# Altium footprint library IC_SMD_BGA.PCBLIB: 109 footprints (part 6 of 14)
Each footprint in its own frame and in the unit in brackets; x right, y up, seen from the top. Pads: shape width x height; smd on the part's side, far side on the other; paste and mask are expansions set on the pad; w line width, h text height; cw(c..) or ccw(c..) is an arc to the next point about the centre after c.
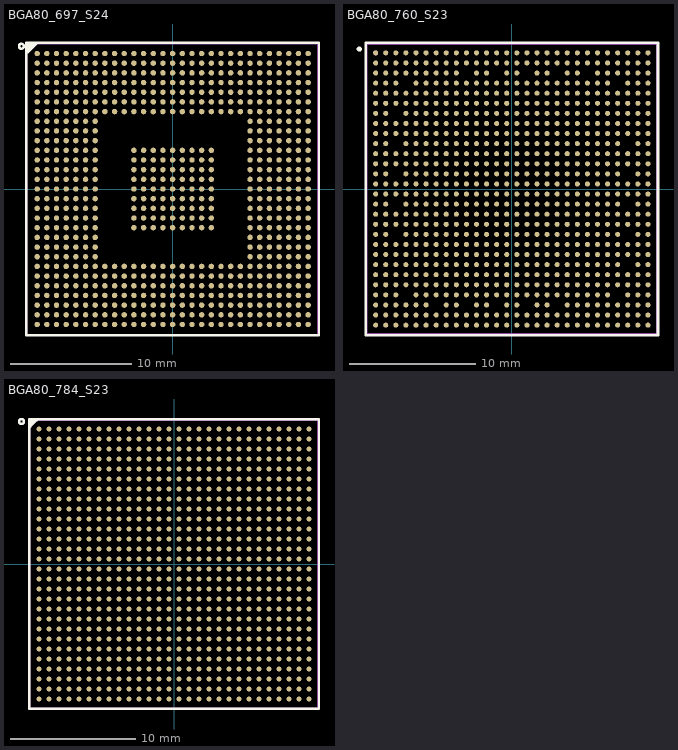
[diagram p5: the footprints below, top view; thin cyan lines are the x and y axes]

## BGA80_697_S24 [mm] "ZTZ GTZ PBGA N697"
height 3.2
pads (697):
  round 0.45 smd: A1(-11.2,11.2) A2(-10.4,11.2) A3(-9.6,11.2) A4(-8.8,11.2) A5(-8,11.2) A6(-7.2,11.2) A7(-6.4,11.2) A8(-5.6,11.2) A9(-4.8,11.2) A10(-4,11.2) A11(-3.2,11.2) A12(-2.4,11.2) A13(-1.6,11.2) A14(-0.8,11.2) A15(0,11.2) A16(0.8,11.2) A17(1.6,11.2) A18(2.4,11.2) A19(3.2,11.2) A20(4,11.2) A21(4.8,11.2) A22(5.6,11.2) A23(6.4,11.2) A24(7.2,11.2) A25(8,11.2) A26(8.8,11.2) A27(9.6,11.2) A28(10.4,11.2) A29(11.2,11.2) AA1(-11.2,-4.8) AA2(-10.4,-4.8) AA3(-9.6,-4.8) AA4(-8.8,-4.8) AA5(-8,-4.8) AA6(-7.2,-4.8) AA7(-6.4,-4.8) AA23(6.4,-4.8) AA24(7.2,-4.8) AA25(8,-4.8) AA26(8.8,-4.8) AA27(9.6,-4.8) AA28(10.4,-4.8) AA29(11.2,-4.8) AB1(-11.2,-5.6) AB2(-10.4,-5.6) AB3(-9.6,-5.6) AB4(-8.8,-5.6) AB5(-8,-5.6) AB6(-7.2,-5.6) AB7(-6.4,-5.6) AB23(6.4,-5.6) AB24(7.2,-5.6) AB25(8,-5.6) AB26(8.8,-5.6) AB27(9.6,-5.6) AB28(10.4,-5.6) AB29(11.2,-5.6) AC1(-11.2,-6.4) AC2(-10.4,-6.4) AC3(-9.6,-6.4) AC4(-8.8,-6.4) AC5(-8,-6.4) AC6(-7.2,-6.4) AC7(-6.4,-6.4) AC8(-5.6,-6.4) AC9(-4.8,-6.4) AC10(-4,-6.4) AC11(-3.2,-6.4) AC12(-2.4,-6.4) AC13(-1.6,-6.4) AC14(-0.8,-6.4) AC15(0,-6.4) AC16(0.8,-6.4) AC17(1.6,-6.4) AC18(2.4,-6.4) AC19(3.2,-6.4) AC20(4,-6.4) AC21(4.8,-6.4) AC22(5.6,-6.4) AC23(6.4,-6.4) AC24(7.2,-6.4) AC25(8,-6.4) AC26(8.8,-6.4) AC27(9.6,-6.4) AC28(10.4,-6.4) AC29(11.2,-6.4) AD1(-11.2,-7.2) AD2(-10.4,-7.2) AD3(-9.6,-7.2) AD4(-8.8,-7.2) AD5(-8,-7.2) AD6(-7.2,-7.2) AD7(-6.4,-7.2) AD8(-5.6,-7.2) AD9(-4.8,-7.2) AD10(-4,-7.2) AD11(-3.2,-7.2) AD12(-2.4,-7.2) AD13(-1.6,-7.2) AD14(-0.8,-7.2) AD15(0,-7.2) AD16(0.8,-7.2) AD17(1.6,-7.2) AD18(2.4,-7.2) AD19(3.2,-7.2) AD20(4,-7.2) AD21(4.8,-7.2) AD22(5.6,-7.2) AD23(6.4,-7.2) AD24(7.2,-7.2) AD25(8,-7.2) AD26(8.8,-7.2) AD27(9.6,-7.2) AD28(10.4,-7.2) AD29(11.2,-7.2) AE1(-11.2,-8) AE2(-10.4,-8) AE3(-9.6,-8) AE4(-8.8,-8) AE5(-8,-8) AE6(-7.2,-8) AE7(-6.4,-8) AE8(-5.6,-8) AE9(-4.8,-8) AE10(-4,-8) AE11(-3.2,-8) AE12(-2.4,-8) AE13(-1.6,-8) AE14(-0.8,-8) AE15(0,-8) AE16(0.8,-8) AE17(1.6,-8) AE18(2.4,-8) AE19(3.2,-8) AE20(4,-8) AE21(4.8,-8) AE22(5.6,-8) AE23(6.4,-8) AE24(7.2,-8) AE25(8,-8) AE26(8.8,-8) AE27(9.6,-8) AE28(10.4,-8) AE29(11.2,-8) AF1(-11.2,-8.8) AF2(-10.4,-8.8) AF3(-9.6,-8.8) AF4(-8.8,-8.8) AF5(-8,-8.8) AF6(-7.2,-8.8) AF7(-6.4,-8.8) AF8(-5.6,-8.8) AF9(-4.8,-8.8) AF10(-4,-8.8) AF11(-3.2,-8.8) AF12(-2.4,-8.8) AF13(-1.6,-8.8) AF14(-0.8,-8.8) AF15(0,-8.8) AF16(0.8,-8.8) AF17(1.6,-8.8) AF18(2.4,-8.8) AF19(3.2,-8.8) AF20(4,-8.8) AF21(4.8,-8.8) AF22(5.6,-8.8) AF23(6.4,-8.8) AF24(7.2,-8.8) AF25(8,-8.8) AF26(8.8,-8.8) AF27(9.6,-8.8) AF28(10.4,-8.8) AF29(11.2,-8.8) AG1(-11.2,-9.6) AG2(-10.4,-9.6) AG3(-9.6,-9.6) AG4(-8.8,-9.6) AG5(-8,-9.6) AG6(-7.2,-9.6) AG7(-6.4,-9.6) AG8(-5.6,-9.6) AG9(-4.8,-9.6) AG10(-4,-9.6) AG11(-3.2,-9.6) AG12(-2.4,-9.6) AG13(-1.6,-9.6) AG14(-0.8,-9.6) AG15(0,-9.6) AG16(0.8,-9.6) AG17(1.6,-9.6) AG18(2.4,-9.6) AG19(3.2,-9.6) AG20(4,-9.6) AG21(4.8,-9.6) AG22(5.6,-9.6) AG23(6.4,-9.6) AG24(7.2,-9.6) AG25(8,-9.6) AG26(8.8,-9.6) AG27(9.6,-9.6) AG28(10.4,-9.6) AG29(11.2,-9.6) AH1(-11.2,-10.4) AH2(-10.4,-10.4) AH3(-9.6,-10.4) AH4(-8.8,-10.4) AH5(-8,-10.4) AH6(-7.2,-10.4) AH7(-6.4,-10.4) AH8(-5.6,-10.4) AH9(-4.8,-10.4) AH10(-4,-10.4) AH11(-3.2,-10.4) AH12(-2.4,-10.4) AH13(-1.6,-10.4) AH14(-0.8,-10.4) AH15(0,-10.4) AH16(0.8,-10.4) AH17(1.6,-10.4) AH18(2.4,-10.4) AH19(3.2,-10.4) AH20(4,-10.4) AH21(4.8,-10.4) AH22(5.6,-10.4) AH23(6.4,-10.4) AH24(7.2,-10.4) AH25(8,-10.4) AH26(8.8,-10.4) AH27(9.6,-10.4) AH28(10.4,-10.4) AH29(11.2,-10.4) AJ1(-11.2,-11.2) AJ2(-10.4,-11.2) AJ3(-9.6,-11.2) AJ4(-8.8,-11.2) AJ5(-8,-11.2) AJ6(-7.2,-11.2) AJ7(-6.4,-11.2) AJ8(-5.6,-11.2) AJ9(-4.8,-11.2) AJ10(-4,-11.2) AJ11(-3.2,-11.2) AJ12(-2.4,-11.2) AJ13(-1.6,-11.2) AJ14(-0.8,-11.2) AJ15(0,-11.2) AJ16(0.8,-11.2) AJ17(1.6,-11.2) AJ18(2.4,-11.2) AJ19(3.2,-11.2) AJ20(4,-11.2) AJ21(4.8,-11.2) AJ22(5.6,-11.2) AJ23(6.4,-11.2) AJ24(7.2,-11.2) AJ25(8,-11.2) AJ26(8.8,-11.2) AJ27(9.6,-11.2) AJ28(10.4,-11.2) AJ29(11.2,-11.2) B1(-11.2,10.4) B2(-10.4,10.4) B3(-9.6,10.4) B4(-8.8,10.4) B5(-8,10.4) B6(-7.2,10.4) B7(-6.4,10.4) B8(-5.6,10.4) B9(-4.8,10.4) B10(-4,10.4) B11(-3.2,10.4) B12(-2.4,10.4) B13(-1.6,10.4) B14(-0.8,10.4) B15(0,10.4) B16(0.8,10.4) B17(1.6,10.4) B18(2.4,10.4) B19(3.2,10.4) B20(4,10.4) B21(4.8,10.4) B22(5.6,10.4) B23(6.4,10.4) B24(7.2,10.4) B25(8,10.4) B26(8.8,10.4) B27(9.6,10.4) B28(10.4,10.4) B29(11.2,10.4) C1(-11.2,9.6) C2(-10.4,9.6) C3(-9.6,9.6) C4(-8.8,9.6) C5(-8,9.6) C6(-7.2,9.6) C7(-6.4,9.6) C8(-5.6,9.6) C9(-4.8,9.6) C10(-4,9.6) C11(-3.2,9.6) C12(-2.4,9.6) C13(-1.6,9.6) C14(-0.8,9.6) C15(0,9.6) C16(0.8,9.6) C17(1.6,9.6) C18(2.4,9.6) C19(3.2,9.6) C20(4,9.6) C21(4.8,9.6) C22(5.6,9.6) C23(6.4,9.6) C24(7.2,9.6) C25(8,9.6) C26(8.8,9.6) C27(9.6,9.6) C28(10.4,9.6) C29(11.2,9.6) D1(-11.2,8.8) D2(-10.4,8.8) D3(-9.6,8.8) D4(-8.8,8.8) D5(-8,8.8) D6(-7.2,8.8) D7(-6.4,8.8) D8(-5.6,8.8) D9(-4.8,8.8) D10(-4,8.8) D11(-3.2,8.8) D12(-2.4,8.8) D13(-1.6,8.8) D14(-0.8,8.8) D15(0,8.8) D16(0.8,8.8) D17(1.6,8.8) D18(2.4,8.8) D19(3.2,8.8) D20(4,8.8) D21(4.8,8.8) D22(5.6,8.8) D23(6.4,8.8) D24(7.2,8.8) D25(8,8.8) D26(8.8,8.8) D27(9.6,8.8) D28(10.4,8.8) D29(11.2,8.8) E1(-11.2,8) E2(-10.4,8) E3(-9.6,8) E4(-8.8,8) E5(-8,8) E6(-7.2,8) E7(-6.4,8) E8(-5.6,8) E9(-4.8,8) E10(-4,8) E11(-3.2,8) E12(-2.4,8) E13(-1.6,8) E14(-0.8,8) E15(0,8) E16(0.8,8) E17(1.6,8) E18(2.4,8) E19(3.2,8) E20(4,8) E21(4.8,8) E22(5.6,8) E23(6.4,8) E24(7.2,8) E25(8,8) E26(8.8,8) E27(9.6,8) E28(10.4,8) E29(11.2,8) F1(-11.2,7.2) F2(-10.4,7.2) F3(-9.6,7.2) F4(-8.8,7.2) F5(-8,7.2) F6(-7.2,7.2) F7(-6.4,7.2) F8(-5.6,7.2) F9(-4.8,7.2) F10(-4,7.2) F11(-3.2,7.2) F12(-2.4,7.2) F13(-1.6,7.2) F14(-0.8,7.2) F15(0,7.2) F16(0.8,7.2) F17(1.6,7.2) F18(2.4,7.2) F19(3.2,7.2) F20(4,7.2) F21(4.8,7.2) F22(5.6,7.2) F23(6.4,7.2) F24(7.2,7.2) F25(8,7.2) F26(8.8,7.2) F27(9.6,7.2) F28(10.4,7.2) F29(11.2,7.2) G1(-11.2,6.4) G2(-10.4,6.4) G3(-9.6,6.4) G4(-8.8,6.4) G5(-8,6.4) G6(-7.2,6.4) G7(-6.4,6.4) G8(-5.6,6.4) G9(-4.8,6.4) G10(-4,6.4) G11(-3.2,6.4) G12(-2.4,6.4) G13(-1.6,6.4) G14(-0.8,6.4) G15(0,6.4) G16(0.8,6.4) G17(1.6,6.4) G18(2.4,6.4) G19(3.2,6.4) G20(4,6.4) G21(4.8,6.4) G22(5.6,6.4) G23(6.4,6.4) G24(7.2,6.4) G25(8,6.4) G26(8.8,6.4) G27(9.6,6.4) G28(10.4,6.4) G29(11.2,6.4) H1(-11.2,5.6) H2(-10.4,5.6) H3(-9.6,5.6) H4(-8.8,5.6) H5(-8,5.6) H6(-7.2,5.6) H7(-6.4,5.6) H23(6.4,5.6) H24(7.2,5.6) H25(8,5.6) H26(8.8,5.6) H27(9.6,5.6) H28(10.4,5.6) H29(11.2,5.6) J1(-11.2,4.8) J2(-10.4,4.8) J3(-9.6,4.8) J4(-8.8,4.8) J5(-8,4.8) J6(-7.2,4.8) J7(-6.4,4.8) J23(6.4,4.8) J24(7.2,4.8) J25(8,4.8) J26(8.8,4.8) J27(9.6,4.8) J28(10.4,4.8) J29(11.2,4.8) K1(-11.2,4) K2(-10.4,4) K3(-9.6,4) K4(-8.8,4) K5(-8,4) K6(-7.2,4) K7(-6.4,4) K23(6.4,4) K24(7.2,4) K25(8,4) K26(8.8,4) K27(9.6,4) K28(10.4,4) K29(11.2,4) L1(-11.2,3.2) L2(-10.4,3.2) L3(-9.6,3.2) L4(-8.8,3.2) L5(-8,3.2) L6(-7.2,3.2) L7(-6.4,3.2) L11(-3.2,3.2) L12(-2.4,3.2) L13(-1.6,3.2) L14(-0.8,3.2) L15(0,3.2) L16(0.8,3.2) L17(1.6,3.2) L18(2.4,3.2) L19(3.2,3.2) L23(6.4,3.2) L24(7.2,3.2) L25(8,3.2) L26(8.8,3.2) L27(9.6,3.2) L28(10.4,3.2) L29(11.2,3.2) M1(-11.2,2.4) M2(-10.4,2.4) M3(-9.6,2.4) M4(-8.8,2.4) M5(-8,2.4) M6(-7.2,2.4) M7(-6.4,2.4) M11(-3.2,2.4) M12(-2.4,2.4) M13(-1.6,2.4) M14(-0.8,2.4) M15(0,2.4) M16(0.8,2.4) M17(1.6,2.4) M18(2.4,2.4) M19(3.2,2.4) M23(6.4,2.4) M24(7.2,2.4) M25(8,2.4) M26(8.8,2.4) M27(9.6,2.4) M28(10.4,2.4) M29(11.2,2.4) N1(-11.2,1.6) N2(-10.4,1.6) N3(-9.6,1.6) N4(-8.8,1.6) N5(-8,1.6) N6(-7.2,1.6) N7(-6.4,1.6) N11(-3.2,1.6) N12(-2.4,1.6) N13(-1.6,1.6) N14(-0.8,1.6) N15(0,1.6) N16(0.8,1.6) N17(1.6,1.6) N18(2.4,1.6) N19(3.2,1.6) N23(6.4,1.6) N24(7.2,1.6) N25(8,1.6) N26(8.8,1.6) N27(9.6,1.6) N28(10.4,1.6) N29(11.2,1.6) P1(-11.2,0.8) P2(-10.4,0.8) P3(-9.6,0.8) P4(-8.8,0.8) P5(-8,0.8) P6(-7.2,0.8) P7(-6.4,0.8) P11(-3.2,0.8) P12(-2.4,0.8) P13(-1.6,0.8) P14(-0.8,0.8) P15(0,0.8) P16(0.8,0.8) P17(1.6,0.8) P18(2.4,0.8) P19(3.2,0.8) P23(6.4,0.8) P24(7.2,0.8) P25(8,0.8) P26(8.8,0.8) P27(9.6,0.8) P28(10.4,0.8) P29(11.2,0.8) R1(-11.2,0) R2(-10.4,0) R3(-9.6,0) R4(-8.8,0) R5(-8,0) R6(-7.2,0) R7(-6.4,0) R11(-3.2,0) R12(-2.4,0) R13(-1.6,0) R14(-0.8,0) R15(0,0) R16(0.8,0) R17(1.6,0) R18(2.4,0) R19(3.2,0) R23(6.4,0) R24(7.2,0) R25(8,0) R26(8.8,0) R27(9.6,0) R28(10.4,0) R29(11.2,0) T1(-11.2,-0.8) T2(-10.4,-0.8) T3(-9.6,-0.8) T4(-8.8,-0.8) T5(-8,-0.8) T6(-7.2,-0.8) T7(-6.4,-0.8) T11(-3.2,-0.8) T12(-2.4,-0.8) T13(-1.6,-0.8) T14(-0.8,-0.8) T15(0,-0.8) T16(0.8,-0.8) T17(1.6,-0.8) T18(2.4,-0.8) T19(3.2,-0.8) T23(6.4,-0.8) T24(7.2,-0.8) T25(8,-0.8) T26(8.8,-0.8) T27(9.6,-0.8) T28(10.4,-0.8) T29(11.2,-0.8) U1(-11.2,-1.6) U2(-10.4,-1.6) U3(-9.6,-1.6) U4(-8.8,-1.6) U5(-8,-1.6) U6(-7.2,-1.6) U7(-6.4,-1.6) U11(-3.2,-1.6) U12(-2.4,-1.6) U13(-1.6,-1.6) U14(-0.8,-1.6) U15(0,-1.6) U16(0.8,-1.6) U17(1.6,-1.6) U18(2.4,-1.6) U19(3.2,-1.6) U23(6.4,-1.6) U24(7.2,-1.6) U25(8,-1.6) U26(8.8,-1.6) U27(9.6,-1.6) U28(10.4,-1.6) U29(11.2,-1.6) V1(-11.2,-2.4) V2(-10.4,-2.4) V3(-9.6,-2.4) V4(-8.8,-2.4) V5(-8,-2.4) V6(-7.2,-2.4) V7(-6.4,-2.4) V11(-3.2,-2.4) V12(-2.4,-2.4) V13(-1.6,-2.4) V14(-0.8,-2.4) V15(0,-2.4) V16(0.8,-2.4) V17(1.6,-2.4) V18(2.4,-2.4) V19(3.2,-2.4) V23(6.4,-2.4) V24(7.2,-2.4) V25(8,-2.4) V26(8.8,-2.4) V27(9.6,-2.4) V28(10.4,-2.4) V29(11.2,-2.4) W1(-11.2,-3.2) W2(-10.4,-3.2) W3(-9.6,-3.2) W4(-8.8,-3.2) W5(-8,-3.2) W6(-7.2,-3.2) W7(-6.4,-3.2) W11(-3.2,-3.2) W12(-2.4,-3.2) W13(-1.6,-3.2) W14(-0.8,-3.2) W15(0,-3.2) W16(0.8,-3.2) W17(1.6,-3.2) W18(2.4,-3.2) W19(3.2,-3.2) W23(6.4,-3.2) W24(7.2,-3.2) W25(8,-3.2) W26(8.8,-3.2) W27(9.6,-3.2) W28(10.4,-3.2) W29(11.2,-3.2) Y1(-11.2,-4) Y2(-10.4,-4) Y3(-9.6,-4) Y4(-8.8,-4) Y5(-8,-4) Y6(-7.2,-4) Y7(-6.4,-4) Y23(6.4,-4) Y24(7.2,-4) Y25(8,-4) Y26(8.8,-4) Y27(9.6,-4) Y28(10.4,-4) Y29(11.2,-4)
TopOverlay:
  circle w0.2: c-12.5,11.8 r0.2
  region: -11.284,12 -12,11.284 -12,12
  lines w0.2: -12,11.284 -11.284,12 ; -12.1,-12.1 -12.1,12.1 12.1,12.1 12.1,-12.1 -12.1,-12.1
Mechanical13:
  lines w0.1: -12,-12 -12,12 12,12 12,-12 -12,-12
3D body: height 3.2, standoff 0.35, extent -12,-12 12,12

## BGA80_760_S23 [mm] "BGA, ABC, 760-ball, 0.8mm pitch 23x23x3mm"
height 3
pads (760):
  round 0.4 smd mask+0.05: A1(-10.8,10.8) A2(-10,10.8) A3(-9.2,10.8) A4(-8.4,10.8) A5(-7.6,10.8) A6(-6.8,10.8) A7(-6,10.8) A8(-5.2,10.8) A9(-4.4,10.8) A10(-3.6,10.8) A11(-2.8,10.8) A12(-2,10.8) A13(-1.2,10.8) A14(-0.4,10.8) A15(0.4,10.8) A16(1.2,10.8) A17(2,10.8) A18(2.8,10.8) A19(3.6,10.8) A20(4.4,10.8) A21(5.2,10.8) A22(6,10.8) A23(6.8,10.8) A24(7.6,10.8) A25(8.4,10.8) A26(9.2,10.8) A27(10,10.8) A28(10.8,10.8) AA1(-10.8,-5.2) AA2(-10,-5.2) AA3(-9.2,-5.2) AA4(-8.4,-5.2) AA5(-7.6,-5.2) AA6(-6.8,-5.2) AA7(-6,-5.2) AA8(-5.2,-5.2) AA9(-4.4,-5.2) AA10(-3.6,-5.2) AA11(-2.8,-5.2) AA12(-2,-5.2) AA13(-1.2,-5.2) AA14(-0.4,-5.2) AA15(0.4,-5.2) AA16(1.2,-5.2) AA17(2,-5.2) AA18(2.8,-5.2) AA19(3.6,-5.2) AA20(4.4,-5.2) AA21(5.2,-5.2) AA22(6,-5.2) AA23(6.8,-5.2) AA24(7.6,-5.2) AA25(8.4,-5.2) AA26(9.2,-5.2) AA27(10,-5.2) AA28(10.8,-5.2) AB1(-10.8,-6) AB2(-10,-6) AB3(-9.2,-6) AB4(-8.4,-6) AB5(-7.6,-6) AB6(-6.8,-6) AB7(-6,-6) AB8(-5.2,-6) AB9(-4.4,-6) AB10(-3.6,-6) AB11(-2.8,-6) AB12(-2,-6) AB13(-1.2,-6) AB14(-0.4,-6) AB15(0.4,-6) AB16(1.2,-6) AB17(2,-6) AB18(2.8,-6) AB19(3.6,-6) AB20(4.4,-6) AB21(5.2,-6) AB22(6,-6) AB23(6.8,-6) AB24(7.6,-6) AB25(8.4,-6) AB27(10,-6) AB28(10.8,-6) AC1(-10.8,-6.8) AC2(-10,-6.8) AC3(-9.2,-6.8) AC4(-8.4,-6.8) AC5(-7.6,-6.8) AC6(-6.8,-6.8) AC7(-6,-6.8) AC8(-5.2,-6.8) AC9(-4.4,-6.8) AC10(-3.6,-6.8) AC11(-2.8,-6.8) AC12(-2,-6.8) AC13(-1.2,-6.8) AC14(-0.4,-6.8) AC15(0.4,-6.8) AC16(1.2,-6.8) AC17(2,-6.8) AC18(2.8,-6.8) AC19(3.6,-6.8) AC20(4.4,-6.8) AC21(5.2,-6.8) AC22(6,-6.8) AC23(6.8,-6.8) AC24(7.6,-6.8) AC25(8.4,-6.8) AC26(9.2,-6.8) AC27(10,-6.8) AC28(10.8,-6.8) AD1(-10.8,-7.6) AD2(-10,-7.6) AD3(-9.2,-7.6) AD4(-8.4,-7.6) AD5(-7.6,-7.6) AD6(-6.8,-7.6) AD7(-6,-7.6) AD8(-5.2,-7.6) AD9(-4.4,-7.6) AD10(-3.6,-7.6) AD11(-2.8,-7.6) AD12(-2,-7.6) AD13(-1.2,-7.6) AD14(-0.4,-7.6) AD15(0.4,-7.6) AD16(1.2,-7.6) AD17(2,-7.6) AD18(2.8,-7.6) AD19(3.6,-7.6) AD20(4.4,-7.6) AD21(5.2,-7.6) AD22(6,-7.6) AD23(6.8,-7.6) AD24(7.6,-7.6) AD25(8.4,-7.6) AD26(9.2,-7.6) AD27(10,-7.6) AD28(10.8,-7.6) AE1(-10.8,-8.4) AE2(-10,-8.4) AE3(-9.2,-8.4) AE5(-7.6,-8.4) AE6(-6.8,-8.4) AE7(-6,-8.4) AE8(-5.2,-8.4) AE9(-4.4,-8.4) AE10(-3.6,-8.4) AE11(-2.8,-8.4) AE12(-2,-8.4) AE13(-1.2,-8.4) AE14(-0.4,-8.4) AE15(0.4,-8.4) AE16(1.2,-8.4) AE17(2,-8.4) AE18(2.8,-8.4) AE19(3.6,-8.4) AE20(4.4,-8.4) AE21(5.2,-8.4) AE22(6,-8.4) AE23(6.8,-8.4) AE24(7.6,-8.4) AE26(9.2,-8.4) AE27(10,-8.4) AE28(10.8,-8.4) AF1(-10.8,-9.2) AF2(-10,-9.2) AF3(-9.2,-9.2) AF4(-8.4,-9.2) AF5(-7.6,-9.2) AF6(-6.8,-9.2) AF8(-5.2,-9.2) AF9(-4.4,-9.2) AF11(-2.8,-9.2) AF12(-2,-9.2) AF14(-0.4,-9.2) AF15(0.4,-9.2) AF17(2,-9.2) AF18(2.8,-9.2) AF20(4.4,-9.2) AF21(5.2,-9.2) AF22(6,-9.2) AF23(6.8,-9.2) AF24(7.6,-9.2) AF25(8.4,-9.2) AF26(9.2,-9.2) AF27(10,-9.2) AF28(10.8,-9.2) AG1(-10.8,-10) AG2(-10,-10) AG3(-9.2,-10) AG4(-8.4,-10) AG5(-7.6,-10) AG6(-6.8,-10) AG7(-6,-10) AG8(-5.2,-10) AG9(-4.4,-10) AG10(-3.6,-10) AG11(-2.8,-10) AG12(-2,-10) AG13(-1.2,-10) AG14(-0.4,-10) AG15(0.4,-10) AG16(1.2,-10) AG17(2,-10) AG18(2.8,-10) AG19(3.6,-10) AG20(4.4,-10) AG21(5.2,-10) AG22(6,-10) AG23(6.8,-10) AG24(7.6,-10) AG25(8.4,-10) AG26(9.2,-10) AG27(10,-10) AG28(10.8,-10) AH1(-10.8,-10.8) AH2(-10,-10.8) AH3(-9.2,-10.8) AH4(-8.4,-10.8) AH5(-7.6,-10.8) AH6(-6.8,-10.8) AH7(-6,-10.8) AH8(-5.2,-10.8) AH9(-4.4,-10.8) AH10(-3.6,-10.8) AH11(-2.8,-10.8) AH12(-2,-10.8) AH13(-1.2,-10.8) AH14(-0.4,-10.8) AH15(0.4,-10.8) AH16(1.2,-10.8) AH17(2,-10.8) AH18(2.8,-10.8) AH19(3.6,-10.8) AH20(4.4,-10.8) AH21(5.2,-10.8) AH22(6,-10.8) AH23(6.8,-10.8) AH24(7.6,-10.8) AH25(8.4,-10.8) AH26(9.2,-10.8) AH27(10,-10.8) AH28(10.8,-10.8) B1(-10.8,10) B2(-10,10) B3(-9.2,10) B4(-8.4,10) B5(-7.6,10) B6(-6.8,10) B7(-6,10) B8(-5.2,10) B9(-4.4,10) B10(-3.6,10) B11(-2.8,10) B12(-2,10) B13(-1.2,10) B14(-0.4,10) B15(0.4,10) B16(1.2,10) B17(2,10) B18(2.8,10) B19(3.6,10) B20(4.4,10) B21(5.2,10) B22(6,10) B23(6.8,10) B24(7.6,10) B25(8.4,10) B26(9.2,10) B27(10,10) B28(10.8,10) C1(-10.8,9.2) C2(-10,9.2) C3(-9.2,9.2) C4(-8.4,9.2) C5(-7.6,9.2) C6(-6.8,9.2) C7(-6,9.2) C8(-5.2,9.2) C9(-4.4,9.2) C11(-2.8,9.2) C12(-2,9.2) C14(-0.4,9.2) C15(0.4,9.2) C17(2,9.2) C18(2.8,9.2) C20(4.4,9.2) C21(5.2,9.2) C23(6.8,9.2) C24(7.6,9.2) C25(8.4,9.2) C26(9.2,9.2) C27(10,9.2) C28(10.8,9.2) D1(-10.8,8.4) D2(-10,8.4) D3(-9.2,8.4) D5(-7.6,8.4) D6(-6.8,8.4) D7(-6,8.4) D8(-5.2,8.4) D9(-4.4,8.4) D10(-3.6,8.4) D11(-2.8,8.4) D12(-2,8.4) D13(-1.2,8.4) D14(-0.4,8.4) D15(0.4,8.4) D16(1.2,8.4) D17(2,8.4) D18(2.8,8.4) D19(3.6,8.4) D20(4.4,8.4) D21(5.2,8.4) D22(6,8.4) D23(6.8,8.4) D24(7.6,8.4) D26(9.2,8.4) D27(10,8.4) D28(10.8,8.4) E1(-10.8,7.6) E2(-10,7.6) E3(-9.2,7.6) E4(-8.4,7.6) E5(-7.6,7.6) E6(-6.8,7.6) E7(-6,7.6) E8(-5.2,7.6) E9(-4.4,7.6) E10(-3.6,7.6) E11(-2.8,7.6) E12(-2,7.6) E13(-1.2,7.6) E14(-0.4,7.6) E15(0.4,7.6) E16(1.2,7.6) E17(2,7.6) E18(2.8,7.6) E19(3.6,7.6) E20(4.4,7.6) E21(5.2,7.6) E22(6,7.6) E23(6.8,7.6) E24(7.6,7.6) E25(8.4,7.6) E26(9.2,7.6) E27(10,7.6) E28(10.8,7.6) F1(-10.8,6.8) F2(-10,6.8) F3(-9.2,6.8) F4(-8.4,6.8) F5(-7.6,6.8) F6(-6.8,6.8) F7(-6,6.8) F8(-5.2,6.8) F9(-4.4,6.8) F10(-3.6,6.8) F11(-2.8,6.8) F12(-2,6.8) F13(-1.2,6.8) F14(-0.4,6.8) F15(0.4,6.8) F16(1.2,6.8) F17(2,6.8) F18(2.8,6.8) F19(3.6,6.8) F20(4.4,6.8) F21(5.2,6.8) F22(6,6.8) F23(6.8,6.8) F24(7.6,6.8) F25(8.4,6.8) F26(9.2,6.8) F27(10,6.8) F28(10.8,6.8) G1(-10.8,6) G2(-10,6) G4(-8.4,6) G5(-7.6,6) G6(-6.8,6) G7(-6,6) G8(-5.2,6) G9(-4.4,6) G10(-3.6,6) G11(-2.8,6) G12(-2,6) G13(-1.2,6) G14(-0.4,6) G15(0.4,6) G16(1.2,6) G17(2,6) G18(2.8,6) G19(3.6,6) G20(4.4,6) G21(5.2,6) G22(6,6) G23(6.8,6) G24(7.6,6) G25(8.4,6) G26(9.2,6) G27(10,6) G28(10.8,6) H1(-10.8,5.2) H2(-10,5.2) H3(-9.2,5.2) H4(-8.4,5.2) H5(-7.6,5.2) H6(-6.8,5.2) H7(-6,5.2) H8(-5.2,5.2) H9(-4.4,5.2) H10(-3.6,5.2) H11(-2.8,5.2) H12(-2,5.2) H13(-1.2,5.2) H14(-0.4,5.2) H15(0.4,5.2) H16(1.2,5.2) H17(2,5.2) H18(2.8,5.2) H19(3.6,5.2) H20(4.4,5.2) H21(5.2,5.2) H22(6,5.2) H23(6.8,5.2) H24(7.6,5.2) H25(8.4,5.2) H26(9.2,5.2) H27(10,5.2) H28(10.8,5.2) J1(-10.8,4.4) J2(-10,4.4) J3(-9.2,4.4) J4(-8.4,4.4) J5(-7.6,4.4) J6(-6.8,4.4) J7(-6,4.4) J8(-5.2,4.4) J9(-4.4,4.4) J10(-3.6,4.4) J11(-2.8,4.4) J12(-2,4.4) J13(-1.2,4.4) J14(-0.4,4.4) J15(0.4,4.4) J16(1.2,4.4) J17(2,4.4) J18(2.8,4.4) J19(3.6,4.4) J20(4.4,4.4) J21(5.2,4.4) J22(6,4.4) J23(6.8,4.4) J24(7.6,4.4) J25(8.4,4.4) J26(9.2,4.4) J27(10,4.4) J28(10.8,4.4) K1(-10.8,3.6) K2(-10,3.6) K4(-8.4,3.6) K5(-7.6,3.6) K6(-6.8,3.6) K7(-6,3.6) K8(-5.2,3.6) K9(-4.4,3.6) K10(-3.6,3.6) K11(-2.8,3.6) K12(-2,3.6) K13(-1.2,3.6) K14(-0.4,3.6) K15(0.4,3.6) K16(1.2,3.6) K17(2,3.6) K18(2.8,3.6) K19(3.6,3.6) K20(4.4,3.6) K21(5.2,3.6) K22(6,3.6) K23(6.8,3.6) K24(7.6,3.6) K25(8.4,3.6) K27(10,3.6) K28(10.8,3.6) L1(-10.8,2.8) L2(-10,2.8) L3(-9.2,2.8) L4(-8.4,2.8) L5(-7.6,2.8) L6(-6.8,2.8) L7(-6,2.8) L8(-5.2,2.8) L9(-4.4,2.8) L10(-3.6,2.8) L11(-2.8,2.8) L12(-2,2.8) L13(-1.2,2.8) L14(-0.4,2.8) L15(0.4,2.8) L16(1.2,2.8) L17(2,2.8) L18(2.8,2.8) L19(3.6,2.8) L20(4.4,2.8) L21(5.2,2.8) L22(6,2.8) L23(6.8,2.8) L24(7.6,2.8) L25(8.4,2.8) L26(9.2,2.8) L27(10,2.8) L28(10.8,2.8) M1(-10.8,2) M2(-10,2) M3(-9.2,2) M4(-8.4,2) M5(-7.6,2) M6(-6.8,2) M7(-6,2) M8(-5.2,2) M9(-4.4,2) M10(-3.6,2) M11(-2.8,2) M12(-2,2) M13(-1.2,2) M14(-0.4,2) M15(0.4,2) M16(1.2,2) M17(2,2) M18(2.8,2) M19(3.6,2) M20(4.4,2) M21(5.2,2) M22(6,2) M23(6.8,2) M24(7.6,2) M25(8.4,2) M26(9.2,2) M27(10,2) M28(10.8,2) N1(-10.8,1.2) N2(-10,1.2) N4(-8.4,1.2) N5(-7.6,1.2) N6(-6.8,1.2) N7(-6,1.2) N8(-5.2,1.2) N9(-4.4,1.2) N10(-3.6,1.2) N11(-2.8,1.2) N12(-2,1.2) N13(-1.2,1.2) N14(-0.4,1.2) N15(0.4,1.2) N16(1.2,1.2) N17(2,1.2) N18(2.8,1.2) N19(3.6,1.2) N20(4.4,1.2) N21(5.2,1.2) N22(6,1.2) N23(6.8,1.2) N24(7.6,1.2) N25(8.4,1.2) N27(10,1.2) N28(10.8,1.2) P1(-10.8,0.4) P2(-10,0.4) P3(-9.2,0.4) P4(-8.4,0.4) P5(-7.6,0.4) P6(-6.8,0.4) P7(-6,0.4) P8(-5.2,0.4) P9(-4.4,0.4) P10(-3.6,0.4) P11(-2.8,0.4) P12(-2,0.4) P13(-1.2,0.4) P14(-0.4,0.4) P15(0.4,0.4) P16(1.2,0.4) P17(2,0.4) P18(2.8,0.4) P19(3.6,0.4) P20(4.4,0.4) P21(5.2,0.4) P22(6,0.4) P23(6.8,0.4) P24(7.6,0.4) P25(8.4,0.4) P26(9.2,0.4) P27(10,0.4) P28(10.8,0.4) R1(-10.8,-0.4) R2(-10,-0.4) R3(-9.2,-0.4) R4(-8.4,-0.4) R5(-7.6,-0.4) R6(-6.8,-0.4) R7(-6,-0.4) R8(-5.2,-0.4) R9(-4.4,-0.4) R10(-3.6,-0.4) R11(-2.8,-0.4) R12(-2,-0.4) R13(-1.2,-0.4) R14(-0.4,-0.4) R15(0.4,-0.4) R16(1.2,-0.4) R17(2,-0.4) R18(2.8,-0.4) R19(3.6,-0.4) R20(4.4,-0.4) R21(5.2,-0.4) R22(6,-0.4) R23(6.8,-0.4) R24(7.6,-0.4) R25(8.4,-0.4) R26(9.2,-0.4) R27(10,-0.4) R28(10.8,-0.4) T1(-10.8,-1.2) T2(-10,-1.2) T4(-8.4,-1.2) T5(-7.6,-1.2) T6(-6.8,-1.2) T7(-6,-1.2) T8(-5.2,-1.2) T9(-4.4,-1.2) T10(-3.6,-1.2) T11(-2.8,-1.2) T12(-2,-1.2) T13(-1.2,-1.2) T14(-0.4,-1.2) T15(0.4,-1.2) T16(1.2,-1.2) T17(2,-1.2) T18(2.8,-1.2) T19(3.6,-1.2) T20(4.4,-1.2) T21(5.2,-1.2) T22(6,-1.2) T23(6.8,-1.2) T24(7.6,-1.2) T25(8.4,-1.2) T27(10,-1.2) T28(10.8,-1.2) U1(-10.8,-2) U2(-10,-2) U3(-9.2,-2) U4(-8.4,-2) U5(-7.6,-2) U6(-6.8,-2) U7(-6,-2) U8(-5.2,-2) U9(-4.4,-2) U10(-3.6,-2) U11(-2.8,-2) U12(-2,-2) U13(-1.2,-2) U14(-0.4,-2) U15(0.4,-2) U16(1.2,-2) U17(2,-2) U18(2.8,-2) U19(3.6,-2) U20(4.4,-2) U21(5.2,-2) U22(6,-2) U23(6.8,-2) U24(7.6,-2) U25(8.4,-2) U26(9.2,-2) U27(10,-2) U28(10.8,-2) V1(-10.8,-2.8) V2(-10,-2.8) V3(-9.2,-2.8) V4(-8.4,-2.8) V5(-7.6,-2.8) V6(-6.8,-2.8) V7(-6,-2.8) V8(-5.2,-2.8) V9(-4.4,-2.8) V10(-3.6,-2.8) V11(-2.8,-2.8) V12(-2,-2.8) V13(-1.2,-2.8) V14(-0.4,-2.8) V15(0.4,-2.8) V16(1.2,-2.8) V17(2,-2.8) V18(2.8,-2.8) V19(3.6,-2.8) V20(4.4,-2.8) V21(5.2,-2.8) V22(6,-2.8) V23(6.8,-2.8) V24(7.6,-2.8) V25(8.4,-2.8) V26(9.2,-2.8) V27(10,-2.8) V28(10.8,-2.8) W1(-10.8,-3.6) W2(-10,-3.6) W4(-8.4,-3.6) W5(-7.6,-3.6) W6(-6.8,-3.6) W7(-6,-3.6) W8(-5.2,-3.6) W9(-4.4,-3.6) W10(-3.6,-3.6) W11(-2.8,-3.6) W12(-2,-3.6) W13(-1.2,-3.6) W14(-0.4,-3.6) W15(0.4,-3.6) W16(1.2,-3.6) W17(2,-3.6) W18(2.8,-3.6) W19(3.6,-3.6) W20(4.4,-3.6) W21(5.2,-3.6) W22(6,-3.6) W23(6.8,-3.6) W24(7.6,-3.6) W25(8.4,-3.6) W27(10,-3.6) W28(10.8,-3.6) Y1(-10.8,-4.4) Y2(-10,-4.4) Y3(-9.2,-4.4) Y4(-8.4,-4.4) Y5(-7.6,-4.4) Y6(-6.8,-4.4) Y7(-6,-4.4) Y8(-5.2,-4.4) Y9(-4.4,-4.4) Y10(-3.6,-4.4) Y11(-2.8,-4.4) Y12(-2,-4.4) Y13(-1.2,-4.4) Y14(-0.4,-4.4) Y15(0.4,-4.4) Y16(1.2,-4.4) Y17(2,-4.4) Y18(2.8,-4.4) Y19(3.6,-4.4) Y20(4.4,-4.4) Y21(5.2,-4.4) Y22(6,-4.4) Y23(6.8,-4.4) Y24(7.6,-4.4) Y25(8.4,-4.4) Y26(9.2,-4.4) Y27(10,-4.4) Y28(10.8,-4.4)
TopOverlay:
  circle w0.2: c-12.1,11.1 r0.1
  lines w0.2: -11.6,-11.6 11.6,-11.6 11.6,11.6 -11.6,11.6 -11.6,-11.6
Mechanical13:
  circle w0.2: c-10.8,10.8 r0.1
  lines w0.127: -11.5,-11.5 11.5,-11.5 11.5,11.5 -11.5,11.5 -11.5,-11.5
3D body "ABC0760B.stp": height 2.79, standoff 0, extent -11.5,-11.5 11.5,11.5

## BGA80_784_S23 [mm] "BGA, 784-Leads, SFVC784, Pitch 0.80mm, Body 23.00x23.00mmx3.30mm"
height 3.3
pads (784):
  round 0.4 smd mask+0.05: A1(-10.8,10.8) A2(-10,10.8) A3(-9.2,10.8) A4(-8.4,10.8) A5(-7.6,10.8) A6(-6.8,10.8) A7(-6,10.8) A8(-5.2,10.8) A9(-4.4,10.8) A10(-3.6,10.8) A11(-2.8,10.8) A12(-2,10.8) A13(-1.2,10.8) A14(-0.4,10.8) A15(0.4,10.8) A16(1.2,10.8) A17(2,10.8) A18(2.8,10.8) A19(3.6,10.8) A20(4.4,10.8) A21(5.2,10.8) A22(6,10.8) A23(6.8,10.8) A24(7.6,10.8) A25(8.4,10.8) A26(9.2,10.8) A27(10,10.8) A28(10.8,10.8) AA1(-10.8,-5.2) AA2(-10,-5.2) AA3(-9.2,-5.2) AA4(-8.4,-5.2) AA5(-7.6,-5.2) AA6(-6.8,-5.2) AA7(-6,-5.2) AA8(-5.2,-5.2) AA9(-4.4,-5.2) AA10(-3.6,-5.2) AA11(-2.8,-5.2) AA12(-2,-5.2) AA13(-1.2,-5.2) AA14(-0.4,-5.2) AA15(0.4,-5.2) AA16(1.2,-5.2) AA17(2,-5.2) AA18(2.8,-5.2) AA19(3.6,-5.2) AA20(4.4,-5.2) AA21(5.2,-5.2) AA22(6,-5.2) AA23(6.8,-5.2) AA24(7.6,-5.2) AA25(8.4,-5.2) AA26(9.2,-5.2) AA27(10,-5.2) AA28(10.8,-5.2) AB1(-10.8,-6) AB2(-10,-6) AB3(-9.2,-6) AB4(-8.4,-6) AB5(-7.6,-6) AB6(-6.8,-6) AB7(-6,-6) AB8(-5.2,-6) AB9(-4.4,-6) AB10(-3.6,-6) AB11(-2.8,-6) AB12(-2,-6) AB13(-1.2,-6) AB14(-0.4,-6) AB15(0.4,-6) AB16(1.2,-6) AB17(2,-6) AB18(2.8,-6) AB19(3.6,-6) AB20(4.4,-6) AB21(5.2,-6) AB22(6,-6) AB23(6.8,-6) AB24(7.6,-6) AB25(8.4,-6) AB26(9.2,-6) AB27(10,-6) AB28(10.8,-6) AC1(-10.8,-6.8) AC2(-10,-6.8) AC3(-9.2,-6.8) AC4(-8.4,-6.8) AC5(-7.6,-6.8) AC6(-6.8,-6.8) AC7(-6,-6.8) AC8(-5.2,-6.8) AC9(-4.4,-6.8) AC10(-3.6,-6.8) AC11(-2.8,-6.8) AC12(-2,-6.8) AC13(-1.2,-6.8) AC14(-0.4,-6.8) AC15(0.4,-6.8) AC16(1.2,-6.8) AC17(2,-6.8) AC18(2.8,-6.8) AC19(3.6,-6.8) AC20(4.4,-6.8) AC21(5.2,-6.8) AC22(6,-6.8) AC23(6.8,-6.8) AC24(7.6,-6.8) AC25(8.4,-6.8) AC26(9.2,-6.8) AC27(10,-6.8) AC28(10.8,-6.8) AD1(-10.8,-7.6) AD2(-10,-7.6) AD3(-9.2,-7.6) AD4(-8.4,-7.6) AD5(-7.6,-7.6) AD6(-6.8,-7.6) AD7(-6,-7.6) AD8(-5.2,-7.6) AD9(-4.4,-7.6) AD10(-3.6,-7.6) AD11(-2.8,-7.6) AD12(-2,-7.6) AD13(-1.2,-7.6) AD14(-0.4,-7.6) AD15(0.4,-7.6) AD16(1.2,-7.6) AD17(2,-7.6) AD18(2.8,-7.6) AD19(3.6,-7.6) AD20(4.4,-7.6) AD21(5.2,-7.6) AD22(6,-7.6) AD23(6.8,-7.6) AD24(7.6,-7.6) AD25(8.4,-7.6) AD26(9.2,-7.6) AD27(10,-7.6) AD28(10.8,-7.6) AE1(-10.8,-8.4) AE2(-10,-8.4) AE3(-9.2,-8.4) AE4(-8.4,-8.4) AE5(-7.6,-8.4) AE6(-6.8,-8.4) AE7(-6,-8.4) AE8(-5.2,-8.4) AE9(-4.4,-8.4) AE10(-3.6,-8.4) AE11(-2.8,-8.4) AE12(-2,-8.4) AE13(-1.2,-8.4) AE14(-0.4,-8.4) AE15(0.4,-8.4) AE16(1.2,-8.4) AE17(2,-8.4) AE18(2.8,-8.4) AE19(3.6,-8.4) AE20(4.4,-8.4) AE21(5.2,-8.4) AE22(6,-8.4) AE23(6.8,-8.4) AE24(7.6,-8.4) AE25(8.4,-8.4) AE26(9.2,-8.4) AE27(10,-8.4) AE28(10.8,-8.4) AF1(-10.8,-9.2) AF2(-10,-9.2) AF3(-9.2,-9.2) AF4(-8.4,-9.2) AF5(-7.6,-9.2) AF6(-6.8,-9.2) AF7(-6,-9.2) AF8(-5.2,-9.2) AF9(-4.4,-9.2) AF10(-3.6,-9.2) AF11(-2.8,-9.2) AF12(-2,-9.2) AF13(-1.2,-9.2) AF14(-0.4,-9.2) AF15(0.4,-9.2) AF16(1.2,-9.2) AF17(2,-9.2) AF18(2.8,-9.2) AF19(3.6,-9.2) AF20(4.4,-9.2) AF21(5.2,-9.2) AF22(6,-9.2) AF23(6.8,-9.2) AF24(7.6,-9.2) AF25(8.4,-9.2) AF26(9.2,-9.2) AF27(10,-9.2) AF28(10.8,-9.2) AG1(-10.8,-10) AG2(-10,-10) AG3(-9.2,-10) AG4(-8.4,-10) AG5(-7.6,-10) AG6(-6.8,-10) AG7(-6,-10) AG8(-5.2,-10) AG9(-4.4,-10) AG10(-3.6,-10) AG11(-2.8,-10) AG12(-2,-10) AG13(-1.2,-10) AG14(-0.4,-10) AG15(0.4,-10) AG16(1.2,-10) AG17(2,-10) AG18(2.8,-10) AG19(3.6,-10) AG20(4.4,-10) AG21(5.2,-10) AG22(6,-10) AG23(6.8,-10) AG24(7.6,-10) AG25(8.4,-10) AG26(9.2,-10) AG27(10,-10) AG28(10.8,-10) AH1(-10.8,-10.8) AH2(-10,-10.8) AH3(-9.2,-10.8) AH4(-8.4,-10.8) AH5(-7.6,-10.8) AH6(-6.8,-10.8) AH7(-6,-10.8) AH8(-5.2,-10.8) AH9(-4.4,-10.8) AH10(-3.6,-10.8) AH11(-2.8,-10.8) AH12(-2,-10.8) AH13(-1.2,-10.8) AH14(-0.4,-10.8) AH15(0.4,-10.8) AH16(1.2,-10.8) AH17(2,-10.8) AH18(2.8,-10.8) AH19(3.6,-10.8) AH20(4.4,-10.8) AH21(5.2,-10.8) AH22(6,-10.8) AH23(6.8,-10.8) AH24(7.6,-10.8) AH25(8.4,-10.8) AH26(9.2,-10.8) AH27(10,-10.8) AH28(10.8,-10.8) B1(-10.8,10) B2(-10,10) B3(-9.2,10) B4(-8.4,10) B5(-7.6,10) B6(-6.8,10) B7(-6,10) B8(-5.2,10) B9(-4.4,10) B10(-3.6,10) B11(-2.8,10) B12(-2,10) B13(-1.2,10) B14(-0.4,10) B15(0.4,10) B16(1.2,10) B17(2,10) B18(2.8,10) B19(3.6,10) B20(4.4,10) B21(5.2,10) B22(6,10) B23(6.8,10) B24(7.6,10) B25(8.4,10) B26(9.2,10) B27(10,10) B28(10.8,10) C1(-10.8,9.2) C2(-10,9.2) C3(-9.2,9.2) C4(-8.4,9.2) C5(-7.6,9.2) C6(-6.8,9.2) C7(-6,9.2) C8(-5.2,9.2) C9(-4.4,9.2) C10(-3.6,9.2) C11(-2.8,9.2) C12(-2,9.2) C13(-1.2,9.2) C14(-0.4,9.2) C15(0.4,9.2) C16(1.2,9.2) C17(2,9.2) C18(2.8,9.2) C19(3.6,9.2) C20(4.4,9.2) C21(5.2,9.2) C22(6,9.2) C23(6.8,9.2) C24(7.6,9.2) C25(8.4,9.2) C26(9.2,9.2) C27(10,9.2) C28(10.8,9.2) D1(-10.8,8.4) D2(-10,8.4) D3(-9.2,8.4) D4(-8.4,8.4) D5(-7.6,8.4) D6(-6.8,8.4) D7(-6,8.4) D8(-5.2,8.4) D9(-4.4,8.4) D10(-3.6,8.4) D11(-2.8,8.4) D12(-2,8.4) D13(-1.2,8.4) D14(-0.4,8.4) D15(0.4,8.4) D16(1.2,8.4) D17(2,8.4) D18(2.8,8.4) D19(3.6,8.4) D20(4.4,8.4) D21(5.2,8.4) D22(6,8.4) D23(6.8,8.4) D24(7.6,8.4) D25(8.4,8.4) D26(9.2,8.4) D27(10,8.4) D28(10.8,8.4) E1(-10.8,7.6) E2(-10,7.6) E3(-9.2,7.6) E4(-8.4,7.6) E5(-7.6,7.6) E6(-6.8,7.6) E7(-6,7.6) E8(-5.2,7.6) E9(-4.4,7.6) E10(-3.6,7.6) E11(-2.8,7.6) E12(-2,7.6) E13(-1.2,7.6) E14(-0.4,7.6) E15(0.4,7.6) E16(1.2,7.6) E17(2,7.6) E18(2.8,7.6) E19(3.6,7.6) E20(4.4,7.6) E21(5.2,7.6) E22(6,7.6) E23(6.8,7.6) E24(7.6,7.6) E25(8.4,7.6) E26(9.2,7.6) E27(10,7.6) E28(10.8,7.6) F1(-10.8,6.8) F2(-10,6.8) F3(-9.2,6.8) F4(-8.4,6.8) F5(-7.6,6.8) F6(-6.8,6.8) F7(-6,6.8) F8(-5.2,6.8) F9(-4.4,6.8) F10(-3.6,6.8) F11(-2.8,6.8) F12(-2,6.8) F13(-1.2,6.8) F14(-0.4,6.8) F15(0.4,6.8) F16(1.2,6.8) F17(2,6.8) F18(2.8,6.8) F19(3.6,6.8) F20(4.4,6.8) F21(5.2,6.8) F22(6,6.8) F23(6.8,6.8) F24(7.6,6.8) F25(8.4,6.8) F26(9.2,6.8) F27(10,6.8) F28(10.8,6.8) G1(-10.8,6) G2(-10,6) G3(-9.2,6) G4(-8.4,6) G5(-7.6,6) G6(-6.8,6) G7(-6,6) G8(-5.2,6) G9(-4.4,6) G10(-3.6,6) G11(-2.8,6) G12(-2,6) G13(-1.2,6) G14(-0.4,6) G15(0.4,6) G16(1.2,6) G17(2,6) G18(2.8,6) G19(3.6,6) G20(4.4,6) G21(5.2,6) G22(6,6) G23(6.8,6) G24(7.6,6) G25(8.4,6) G26(9.2,6) G27(10,6) G28(10.8,6) H1(-10.8,5.2) H2(-10,5.2) H3(-9.2,5.2) H4(-8.4,5.2) H5(-7.6,5.2) H6(-6.8,5.2) H7(-6,5.2) H8(-5.2,5.2) H9(-4.4,5.2) H10(-3.6,5.2) H11(-2.8,5.2) H12(-2,5.2) H13(-1.2,5.2) H14(-0.4,5.2) H15(0.4,5.2) H16(1.2,5.2) H17(2,5.2) H18(2.8,5.2) H19(3.6,5.2) H20(4.4,5.2) H21(5.2,5.2) H22(6,5.2) H23(6.8,5.2) H24(7.6,5.2) H25(8.4,5.2) H26(9.2,5.2) H27(10,5.2) H28(10.8,5.2) J1(-10.8,4.4) J2(-10,4.4) J3(-9.2,4.4) J4(-8.4,4.4) J5(-7.6,4.4) J6(-6.8,4.4) J7(-6,4.4) J8(-5.2,4.4) J9(-4.4,4.4) J10(-3.6,4.4) J11(-2.8,4.4) J12(-2,4.4) J13(-1.2,4.4) J14(-0.4,4.4) J15(0.4,4.4) J16(1.2,4.4) J17(2,4.4) J18(2.8,4.4) J19(3.6,4.4) J20(4.4,4.4) J21(5.2,4.4) J22(6,4.4) J23(6.8,4.4) J24(7.6,4.4) J25(8.4,4.4) J26(9.2,4.4) J27(10,4.4) J28(10.8,4.4) K1(-10.8,3.6) K2(-10,3.6) K3(-9.2,3.6) K4(-8.4,3.6) K5(-7.6,3.6) K6(-6.8,3.6) K7(-6,3.6) K8(-5.2,3.6) K9(-4.4,3.6) K10(-3.6,3.6) K11(-2.8,3.6) K12(-2,3.6) K13(-1.2,3.6) K14(-0.4,3.6) K15(0.4,3.6) K16(1.2,3.6) K17(2,3.6) K18(2.8,3.6) K19(3.6,3.6) K20(4.4,3.6) K21(5.2,3.6) K22(6,3.6) K23(6.8,3.6) K24(7.6,3.6) K25(8.4,3.6) K26(9.2,3.6) K27(10,3.6) K28(10.8,3.6) L1(-10.8,2.8) L2(-10,2.8) L3(-9.2,2.8) L4(-8.4,2.8) L5(-7.6,2.8) L6(-6.8,2.8) L7(-6,2.8) L8(-5.2,2.8) L9(-4.4,2.8) L10(-3.6,2.8) L11(-2.8,2.8) L12(-2,2.8) L13(-1.2,2.8) L14(-0.4,2.8) L15(0.4,2.8) L16(1.2,2.8) L17(2,2.8) L18(2.8,2.8) L19(3.6,2.8) L20(4.4,2.8) L21(5.2,2.8) L22(6,2.8) L23(6.8,2.8) L24(7.6,2.8) L25(8.4,2.8) L26(9.2,2.8) L27(10,2.8) L28(10.8,2.8) M1(-10.8,2) M2(-10,2) M3(-9.2,2) M4(-8.4,2) M5(-7.6,2) M6(-6.8,2) M7(-6,2) M8(-5.2,2) M9(-4.4,2) M10(-3.6,2) M11(-2.8,2) M12(-2,2) M13(-1.2,2) M14(-0.4,2) M15(0.4,2) M16(1.2,2) M17(2,2) M18(2.8,2) M19(3.6,2) M20(4.4,2) M21(5.2,2) M22(6,2) M23(6.8,2) M24(7.6,2) M25(8.4,2) M26(9.2,2) M27(10,2) M28(10.8,2) N1(-10.8,1.2) N2(-10,1.2) N3(-9.2,1.2) N4(-8.4,1.2) N5(-7.6,1.2) N6(-6.8,1.2) N7(-6,1.2) N8(-5.2,1.2) N9(-4.4,1.2) N10(-3.6,1.2) N11(-2.8,1.2) N12(-2,1.2) N13(-1.2,1.2) N14(-0.4,1.2) N15(0.4,1.2) N16(1.2,1.2) N17(2,1.2) N18(2.8,1.2) N19(3.6,1.2) N20(4.4,1.2) N21(5.2,1.2) N22(6,1.2) N23(6.8,1.2) N24(7.6,1.2) N25(8.4,1.2) N26(9.2,1.2) N27(10,1.2) N28(10.8,1.2) P1(-10.8,0.4) P2(-10,0.4) P3(-9.2,0.4) P4(-8.4,0.4) P5(-7.6,0.4) P6(-6.8,0.4) P7(-6,0.4) P8(-5.2,0.4) P9(-4.4,0.4) P10(-3.6,0.4) P11(-2.8,0.4) P12(-2,0.4) P13(-1.2,0.4) P14(-0.4,0.4) P15(0.4,0.4) P16(1.2,0.4) P17(2,0.4) P18(2.8,0.4) P19(3.6,0.4) P20(4.4,0.4) P21(5.2,0.4) P22(6,0.4) P23(6.8,0.4) P24(7.6,0.4) P25(8.4,0.4) P26(9.2,0.4) P27(10,0.4) P28(10.8,0.4) R1(-10.8,-0.4) R2(-10,-0.4) R3(-9.2,-0.4) R4(-8.4,-0.4) R5(-7.6,-0.4) R6(-6.8,-0.4) R7(-6,-0.4) R8(-5.2,-0.4) R9(-4.4,-0.4) R10(-3.6,-0.4) R11(-2.8,-0.4) R12(-2,-0.4) R13(-1.2,-0.4) R14(-0.4,-0.4) R15(0.4,-0.4) R16(1.2,-0.4) R17(2,-0.4) R18(2.8,-0.4) R19(3.6,-0.4) R20(4.4,-0.4) R21(5.2,-0.4) R22(6,-0.4) R23(6.8,-0.4) R24(7.6,-0.4) R25(8.4,-0.4) R26(9.2,-0.4) R27(10,-0.4) R28(10.8,-0.4) T1(-10.8,-1.2) T2(-10,-1.2) T3(-9.2,-1.2) T4(-8.4,-1.2) T5(-7.6,-1.2) T6(-6.8,-1.2) T7(-6,-1.2) T8(-5.2,-1.2) T9(-4.4,-1.2) T10(-3.6,-1.2) T11(-2.8,-1.2) T12(-2,-1.2) T13(-1.2,-1.2) T14(-0.4,-1.2) T15(0.4,-1.2) T16(1.2,-1.2) T17(2,-1.2) T18(2.8,-1.2) T19(3.6,-1.2) T20(4.4,-1.2) T21(5.2,-1.2) T22(6,-1.2) T23(6.8,-1.2) T24(7.6,-1.2) T25(8.4,-1.2) T26(9.2,-1.2) T27(10,-1.2) T28(10.8,-1.2) U1(-10.8,-2) U2(-10,-2) U3(-9.2,-2) U4(-8.4,-2) U5(-7.6,-2) U6(-6.8,-2) U7(-6,-2) U8(-5.2,-2) U9(-4.4,-2) U10(-3.6,-2) U11(-2.8,-2) U12(-2,-2) U13(-1.2,-2) U14(-0.4,-2) U15(0.4,-2) U16(1.2,-2) U17(2,-2) U18(2.8,-2) U19(3.6,-2) U20(4.4,-2) U21(5.2,-2) U22(6,-2) U23(6.8,-2) U24(7.6,-2) U25(8.4,-2) U26(9.2,-2) U27(10,-2) U28(10.8,-2) V1(-10.8,-2.8) V2(-10,-2.8) V3(-9.2,-2.8) V4(-8.4,-2.8) V5(-7.6,-2.8) V6(-6.8,-2.8) V7(-6,-2.8) V8(-5.2,-2.8) V9(-4.4,-2.8) V10(-3.6,-2.8) V11(-2.8,-2.8) V12(-2,-2.8) V13(-1.2,-2.8) V14(-0.4,-2.8) V15(0.4,-2.8) V16(1.2,-2.8) V17(2,-2.8) V18(2.8,-2.8) V19(3.6,-2.8) V20(4.4,-2.8) V21(5.2,-2.8) V22(6,-2.8) V23(6.8,-2.8) V24(7.6,-2.8) V25(8.4,-2.8) V26(9.2,-2.8) V27(10,-2.8) V28(10.8,-2.8) W1(-10.8,-3.6) W2(-10,-3.6) W3(-9.2,-3.6) W4(-8.4,-3.6) W5(-7.6,-3.6) W6(-6.8,-3.6) W7(-6,-3.6) W8(-5.2,-3.6) W9(-4.4,-3.6) W10(-3.6,-3.6) W11(-2.8,-3.6) W12(-2,-3.6) W13(-1.2,-3.6) W14(-0.4,-3.6) W15(0.4,-3.6) W16(1.2,-3.6) W17(2,-3.6) W18(2.8,-3.6) W19(3.6,-3.6) W20(4.4,-3.6) W21(5.2,-3.6) W22(6,-3.6) W23(6.8,-3.6) W24(7.6,-3.6) W25(8.4,-3.6) W26(9.2,-3.6) W27(10,-3.6) W28(10.8,-3.6) Y1(-10.8,-4.4) Y2(-10,-4.4) Y3(-9.2,-4.4) Y4(-8.4,-4.4) Y5(-7.6,-4.4) Y6(-6.8,-4.4) Y7(-6,-4.4) Y8(-5.2,-4.4) Y9(-4.4,-4.4) Y10(-3.6,-4.4) Y11(-2.8,-4.4) Y12(-2,-4.4) Y13(-1.2,-4.4) Y14(-0.4,-4.4) Y15(0.4,-4.4) Y16(1.2,-4.4) Y17(2,-4.4) Y18(2.8,-4.4) Y19(3.6,-4.4) Y20(4.4,-4.4) Y21(5.2,-4.4) Y22(6,-4.4) Y23(6.8,-4.4) Y24(7.6,-4.4) Y25(8.4,-4.4) Y26(9.2,-4.4) Y27(10,-4.4) Y28(10.8,-4.4)
TopOverlay:
  circle w0.2: c-12.2,11.4 r0.2
  region: -10.984,11.5 -11.5,10.984 -11.5,11.5
  lines w0.2: -11.5,10.984 -10.984,11.5 ; -11.6,-11.6 11.6,-11.6 11.6,11.6 -11.6,11.6 -11.6,-11.6
Mechanical13:
  lines w0.1: -11.5,-11.5 11.5,-11.5 11.5,11.5 -11.5,11.5 -11.5,-11.5
3D body "BGA80_784_23X23.step": height 3.3, standoff 0, extent -11.5,-11.5 11.5,11.5